# EAGLE library part BATTERYSPACE_LIPO-11.1V-PROTECTION (library CMU-ArtFab)
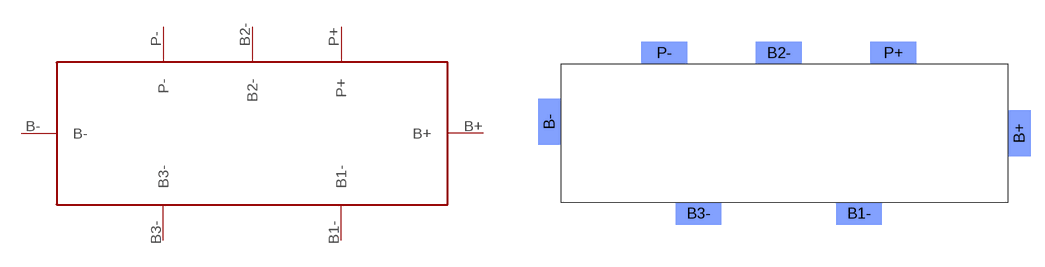
[diagram p0: symbol with the pads of BATTERYSPACE_LIPO-11.1V-PROTECTION.SYM; footprint BATTERYSPACE_LIPO-11.1V-PROTECTION.SYM]

Designator prefix -

## BATTERYSPACE_LIPO-11.1V-PROTECTION  [BATTERYSPACE_LIPO-11.1V-PROTECTION.SYM]
B1-  B1-
B2-  B2-
B3-  B3-
B+  B+
B-  B-
P+  P+
P-  P-

## Footprint BATTERYSPACE_LIPO-11.1V-PROTECTION.SYM (pad centres in mm)
smd 5.08 x 2.54 bottom: B1- 33.02,-1.27; B2- 24.13,16.51; B3- 15.24,-1.27; P+ 36.83,16.51; P- 11.43,16.51
smd 2.54 x 5.08 bottom: B+ 50.8,7.62; B- -1.27,8.89